# Altium schematic symbol library ME218_BaseLib.SchLib: 104 symbols
Pins are listed as number, name and electrical type; pins without a type are passive.

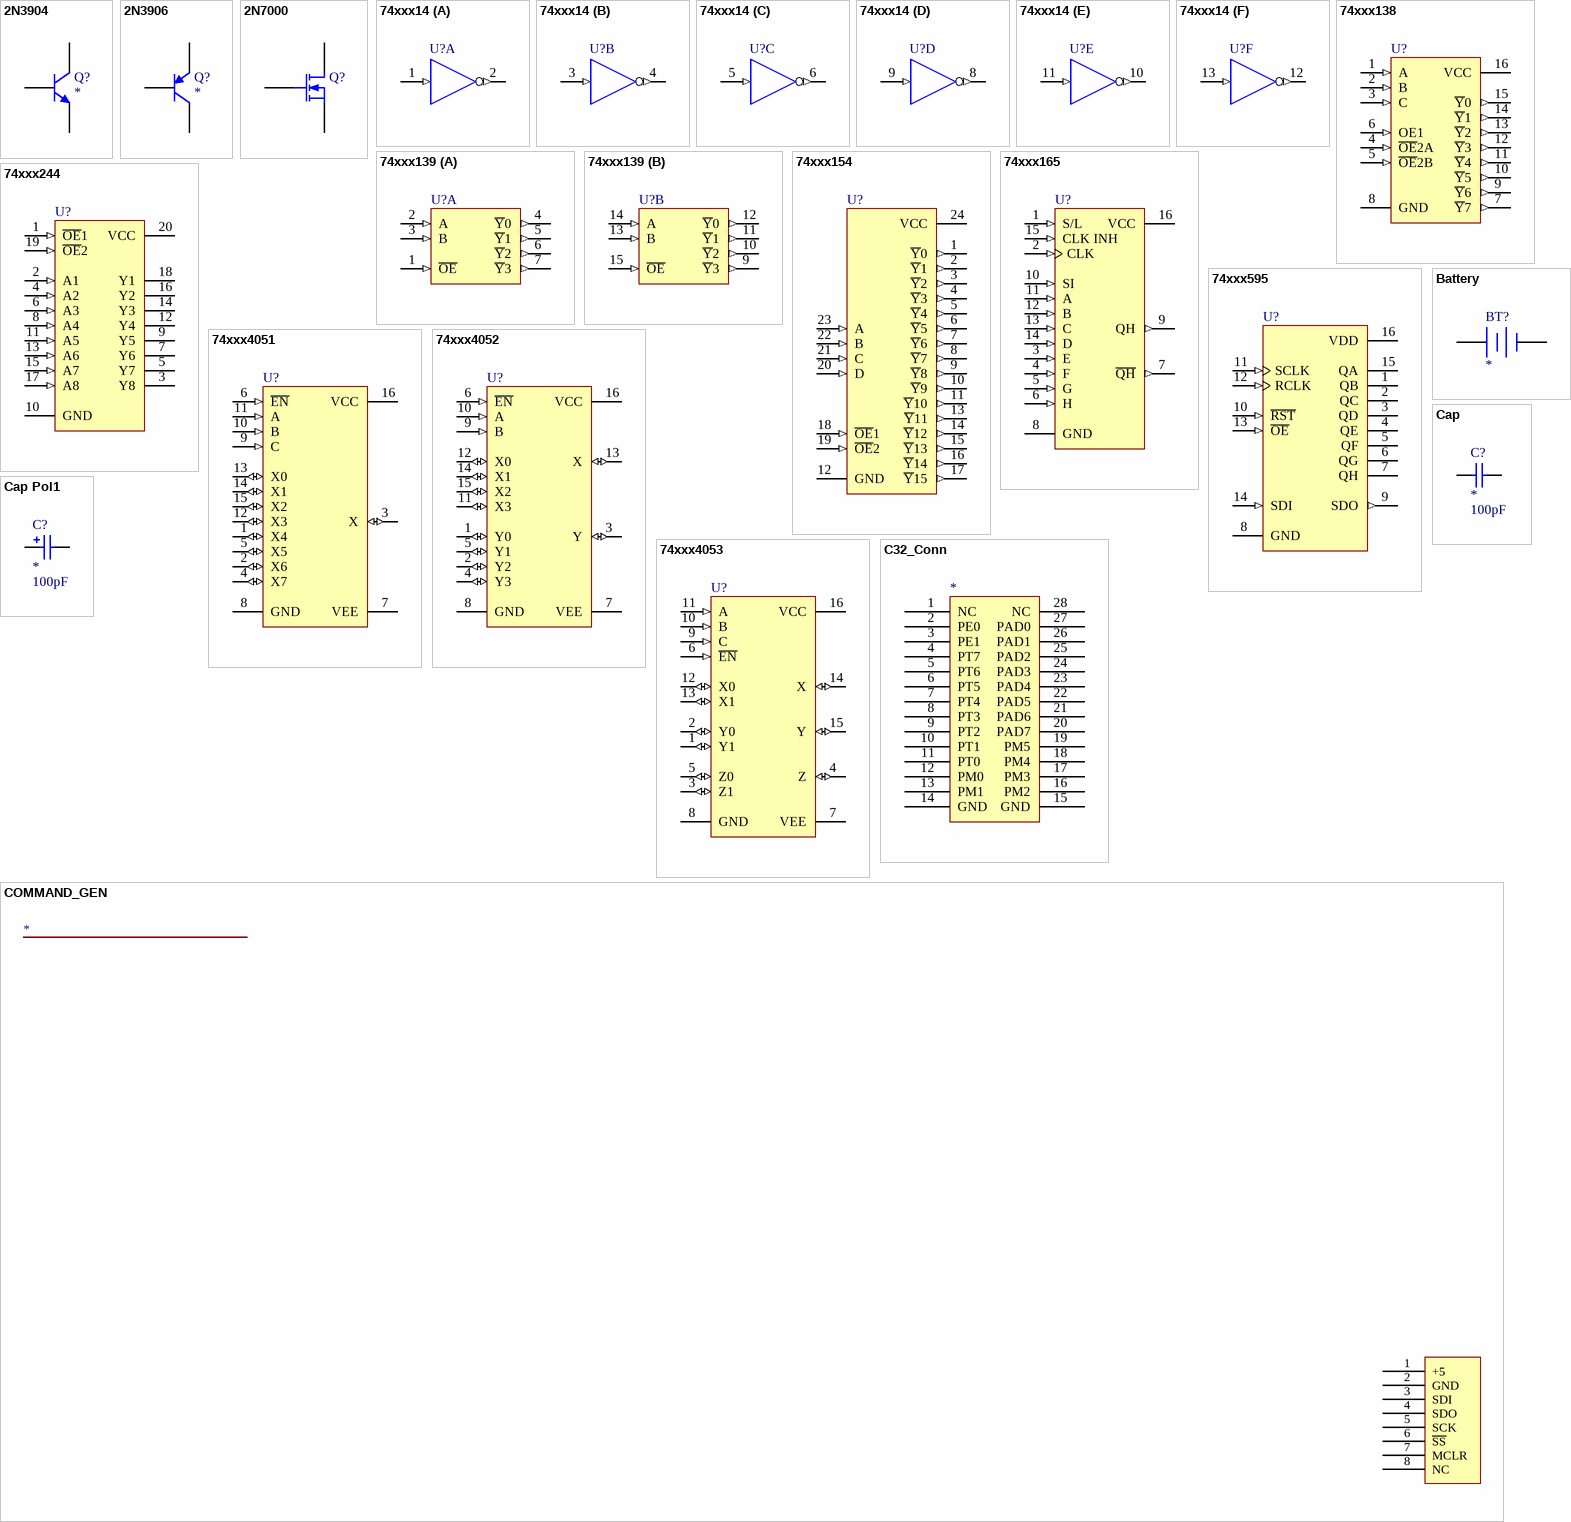
[diagram p0: symbols 2N3904 to COMMAND_GEN]

## 2N3904
designator Q?
NPN General Purpose Amplifier; Manufacturer: Generic Components; Revised: 11-July-2000: SIM Model Added.; Class: Discrete; SubClass: BJT - Low Power; Published: 08/06/2000; Publisher: Altium Hobart Technology Centre
footprint BCY-W3/D4.7
simulation model 2N3904 (NPN)
signal-integrity model 2N3904
pins: 1 E, 2 B, 3 C

## 2N3906
designator Q?
PNP General Purpose Amplifier; Manufacturer: Generic Components; Revised: 11-July-2000: SIM Model Added.; Class: Discrete; SubClass: BJT - Low Power; Published: 08/06/2000; Publisher: Altium Hobart Technology Centre
footprint BCY-W3/D4.7
simulation model 2N3906 (PNP)
signal-integrity model 2N3906
pins: 1 E, 2 B, 3 C

## 2N7000
designator Q?
N-Channel Enhancement Mode Vertical DMOS FET; Manufacturer: Zetex; Class: Discrete; SubClass: MOSFET - Low Power; Published: 8/06/2000; Publisher: Altium Hobart Technology Centre
footprint BCY-W3/D5
simulation model 2N7000 (SUBCKT)
pins: 1 S, 2 G, 3 D

## 74xxx14
designator U?
Hex Inverter with Schmitt Trigger Input; Manufacturer: Fairchild Semiconductor; Class: Logic; SubClass: Gate; Published: 15/04/2002; Publisher: Altium Hobart Technology Centre
footprint DIP-14/D19.7
simulation model FSC_74LS14 (SIMCODE)
signal-integrity model 74AC14PC
pins on every part: 7 GND (power) hidden to GND, 14 VCC (power) hidden to VCC
part A pins: 1 I (in), 2 ~{O} (out)
part B pins: 3 I (in), 4 ~{O} (out)
part C pins: 5 I (in), 6 ~{O} (out)
part D pins: 8 ~{O} (out), 9 I (in)
part E pins: 10 ~{O} (out), 11 I (in)
part F pins: 12 ~{O} (out), 13 I (in)

## 74xxx138
designator U?
3-to-8-Line Decoder; Manufacturer: National Semiconductor; Class: Logic; SubClass: Decoder/Demultiplexer; Published: 15/04/2002; Publisher: Altium Hobart Technology Centre
footprint DIP-16
simulation model 74LS138 (SIMCODE)
signal-integrity model 54LS138DMQB
pins: 1 A (in), 2 B (in), 3 C (in), 4 ~{OE}2A (in), 5 ~{OE}2B (in), 6 OE1 (in), 7 ~{Y}7 (out), 8 GND (power), 9 ~{Y}6 (out), 10 ~{Y}5 (out), 11 ~{Y}4 (out), 12 ~{Y}3 (out), 13 ~{Y}2 (out), 14 ~{Y}1 (out), 15 ~{Y}0 (out), 16 VCC (power)

## 74xxx139
designator U?
2-to-4-Line Decoder/Multiplexer; Manufacturer: National Semiconductor; Class: Logic; SubClass: Decoder/Demultiplexer; Published: 15/04/2002; Publisher: Altium Hobart Technology Centre
footprint DIP-16
simulation model 74LS139 (SIMCODE)
signal-integrity model 54LS139DMQB
pins on every part: 8 GND (power) hidden to GND, 16 VCC (power) hidden to VCC
part A pins: 1 ~{OE} (in), 2 A (in), 3 B (in), 4 ~{Y}0 (out), 5 ~{Y}1 (out), 6 ~{Y}2 (out), 7 ~{Y}3 (out)
part B pins: 9 ~{Y}3 (out), 10 ~{Y}2 (out), 11 ~{Y}1 (out), 12 ~{Y}0 (out), 13 B (in), 14 A (in), 15 ~{OE} (in)

## 74xxx154
designator U?
4-Line to 16-Line Decoder/Demultiplexer; Manufacturer: National Semiconductor; Class: Logic; Published: 15/04/2002; Publisher: Altium Hobart Technology Centre; SubClass: Decoder/Demultiplexer
footprint DIP-24/D32.3
simulation model 74LS154 (SIMCODE)
pins: 1 ~{Y}0 (out), 2 ~{Y}1 (out), 3 ~{Y}2 (out), 4 ~{Y}3 (out), 5 ~{Y}4 (out), 6 ~{Y}5 (out), 7 ~{Y}6 (out), 8 ~{Y}7 (out), 9 ~{Y}8 (out), 10 ~{Y}9 (out), 11 ~{Y}10 (out), 12 GND (power), 13 ~{Y}11 (out), 14 ~{Y}12 (out), 15 ~{Y}13 (out), 16 ~{Y}14 (out), 17 ~{Y}15 (out), 18 ~{OE}1 (in), 19 ~{OE}2 (in), 20 D (in), 21 C (in), 22 B (in), 23 A (in), 24 VCC (power)

## 74xxx165
designator U?
8-Bit Parallel In/Serial Output Shift Register; Manufacturer: Fairchild Semiconductor; Class: Logic; Note: Generic simulation model provided.; Published: 15/04/2002; Publisher: Altium Hobart Technology Centre; SubClass: Register
footprint CDFP-G16/E7
simulation model 74LS165 (SIMCODE)
signal-integrity model DM74LS165N
pins: 1 S/L (in), 2 CLK (in), 3 E (in), 4 F (in), 5 G (in), 6 H (in), 7 ~{QH} (out), 8 GND (power), 9 QH (out), 10 SI (in), 11 A (in), 12 B (in), 13 C (in), 14 D (in), 15 CLK INH (in), 16 VCC (power)

## 74xxx244
designator U?
Octal 3-State Buffer/Line Driver/Line Receiver; Manufacturer: Fairchild Semiconductor; Class: Logic; Published: 15/04/2002; Publisher: Altium Hobart Technology Centre; SubClass: Buffer/Line Driver
footprint DIP-20
simulation model 74LS244 (SIMCODE)
signal-integrity model 54LS244DMQB
pins: 1 ~{OE}1 (in), 2 A1 (in), 3 Y8 (hiz), 4 A2 (in), 5 Y7 (hiz), 6 A3 (in), 7 Y6 (hiz), 8 A4 (in), 9 Y5 (hiz), 10 GND (power), 11 A5 (in), 12 Y4 (hiz), 13 A6 (in), 14 Y3 (hiz), 15 A7 (in), 16 Y2 (hiz), 17 A8 (in), 18 Y1 (hiz), 19 ~{OE}2 (in), 20 VCC (power)

## 74xxx595
designator U?
8-Bit Serial-Input/Serial or Prallel-Output Shift Register with Latched 3-State Outputs; Manufacturer: ON Semiconductor; Class: Logic; Published: 15/04/2002; Publisher: Altium Hobart Technology Centre; SubClass: Register
footprint DIP-16/X1.5
signal-integrity model MC74HC595AN
pins: 1 QB (hiz), 2 QC (hiz), 3 QD (hiz), 4 QE (hiz), 5 QF (hiz), 6 QG (hiz), 7 QH (hiz), 8 GND (power), 9 SDO (out), 10 ~{RST} (in), 11 SCLK (in), 12 RCLK (in), 13 ~{OE} (in), 14 SDI (in), 15 QA (hiz), 16 VDD (power)

## 74xxx4051
designator U?
8-Channel Analog Multiplexer; Manufacturer: Fairchild Semiconductor; Class: Logic; SubClass: Multiplexer/Encoder/Selector; Published: 15/04/2002; Publisher: Altium Hobart Technology Centre
footprint DIP-16
pins: 1 X4 (io), 2 X6 (io), 3 X (io), 4 X7 (io), 5 X5 (io), 6 ~{EN} (in), 7 VEE (power), 8 GND (power), 9 C (in), 10 B (in), 11 A (in), 12 X3 (io), 13 X0 (io), 14 X1 (io), 15 X2 (io), 16 VCC (power)

## 74xxx4052
designator U?
Dual 4-Channel Analog Multiplexer; Manufacturer: Fairchild Semiconductor; Class: Logic; SubClass: Multiplexer/Encoder/Selector; Published: 15/04/2002; Publisher: Altium Hobart Technology Centre
footprint DIP-16
pins: 1 Y0 (io), 2 Y2 (io), 3 Y (io), 4 Y3 (io), 5 Y1 (io), 6 ~{EN} (in), 7 VEE (power), 8 GND (power), 9 B (in), 10 A (in), 11 X3 (io), 12 X0 (io), 13 X (io), 14 X1 (io), 15 X2 (io), 16 VCC (power)

## 74xxx4053
designator U?
Triple 2-Channnel Analog Multiplexer; Manufacturer: Fairchild Semiconductor; Class: Logic; SubClass: Multiplexer/Encoder/Selector; Published: 15/04/2002; Publisher: Altium Hobart Technology Centre
footprint DIP-16
pins: 1 Y1 (io), 2 Y0 (io), 3 Z1 (io), 4 Z (io), 5 Z0 (io), 6 ~{EN} (in), 7 VEE (power), 8 GND (power), 9 C (in), 10 B (in), 11 A (in), 12 X0 (io), 13 X1 (io), 14 X (io), 15 Y (io), 16 VCC (power)

## Battery
designator BT?
Multicell Battery; Manufacturer: Generic Components; Published: 1999
footprint BAT-2
pins: 1 +, 2 -

## C32_Conn
designator *
C32 Protection Bd. Connector
pins: 1 NC, 2 PE0, 3 PE1, 4 PT7, 5 PT6, 6 PT5, 7 PT4, 8 PT3, 9 PT2, 10 PT1, 11 PT0, 12 PM0, 13 PM1, 14 GND, 15 GND, 16 PM2, 17 PM3, 18 PM4, 19 PM5, 20 PAD7, 21 PAD6, 22 PAD5, 23 PAD4, 24 PAD3, 25 PAD2, 26 PAD1, 27 PAD0, 28 NC

## Cap
designator C?  value 100pF
Capacitor; Manufacturer: Generic Components; Class: Passive; Published: 08/06/2000; Publisher: Altium Hobart Technology Centre; SubClass: Capacitor
footprint RAD-0.3
simulation model CAP (Capacitor)
signal-integrity model Cap
pins: 1, 2

## Cap Pol1
designator C?  value 100pF
Polarized Capacitor (Radial); Manufacturer: Generic Components; Class: Passive; Published: 08/06/2000; Publisher: Altium Hobart Technology Centre; SubClass: Capacitor
footprint RB7.6-15
simulation model CAP (Capacitor)
signal-integrity model Cap Pol
pins: 1, 2

## COMMAND_GEN
designator *
Command Generator for lab 8
pins: 1 +5, 2 GND, 3 SDI, 4 SDO, 5 SCK, 6 ~{SS}, 7 MCLR, 8 NC

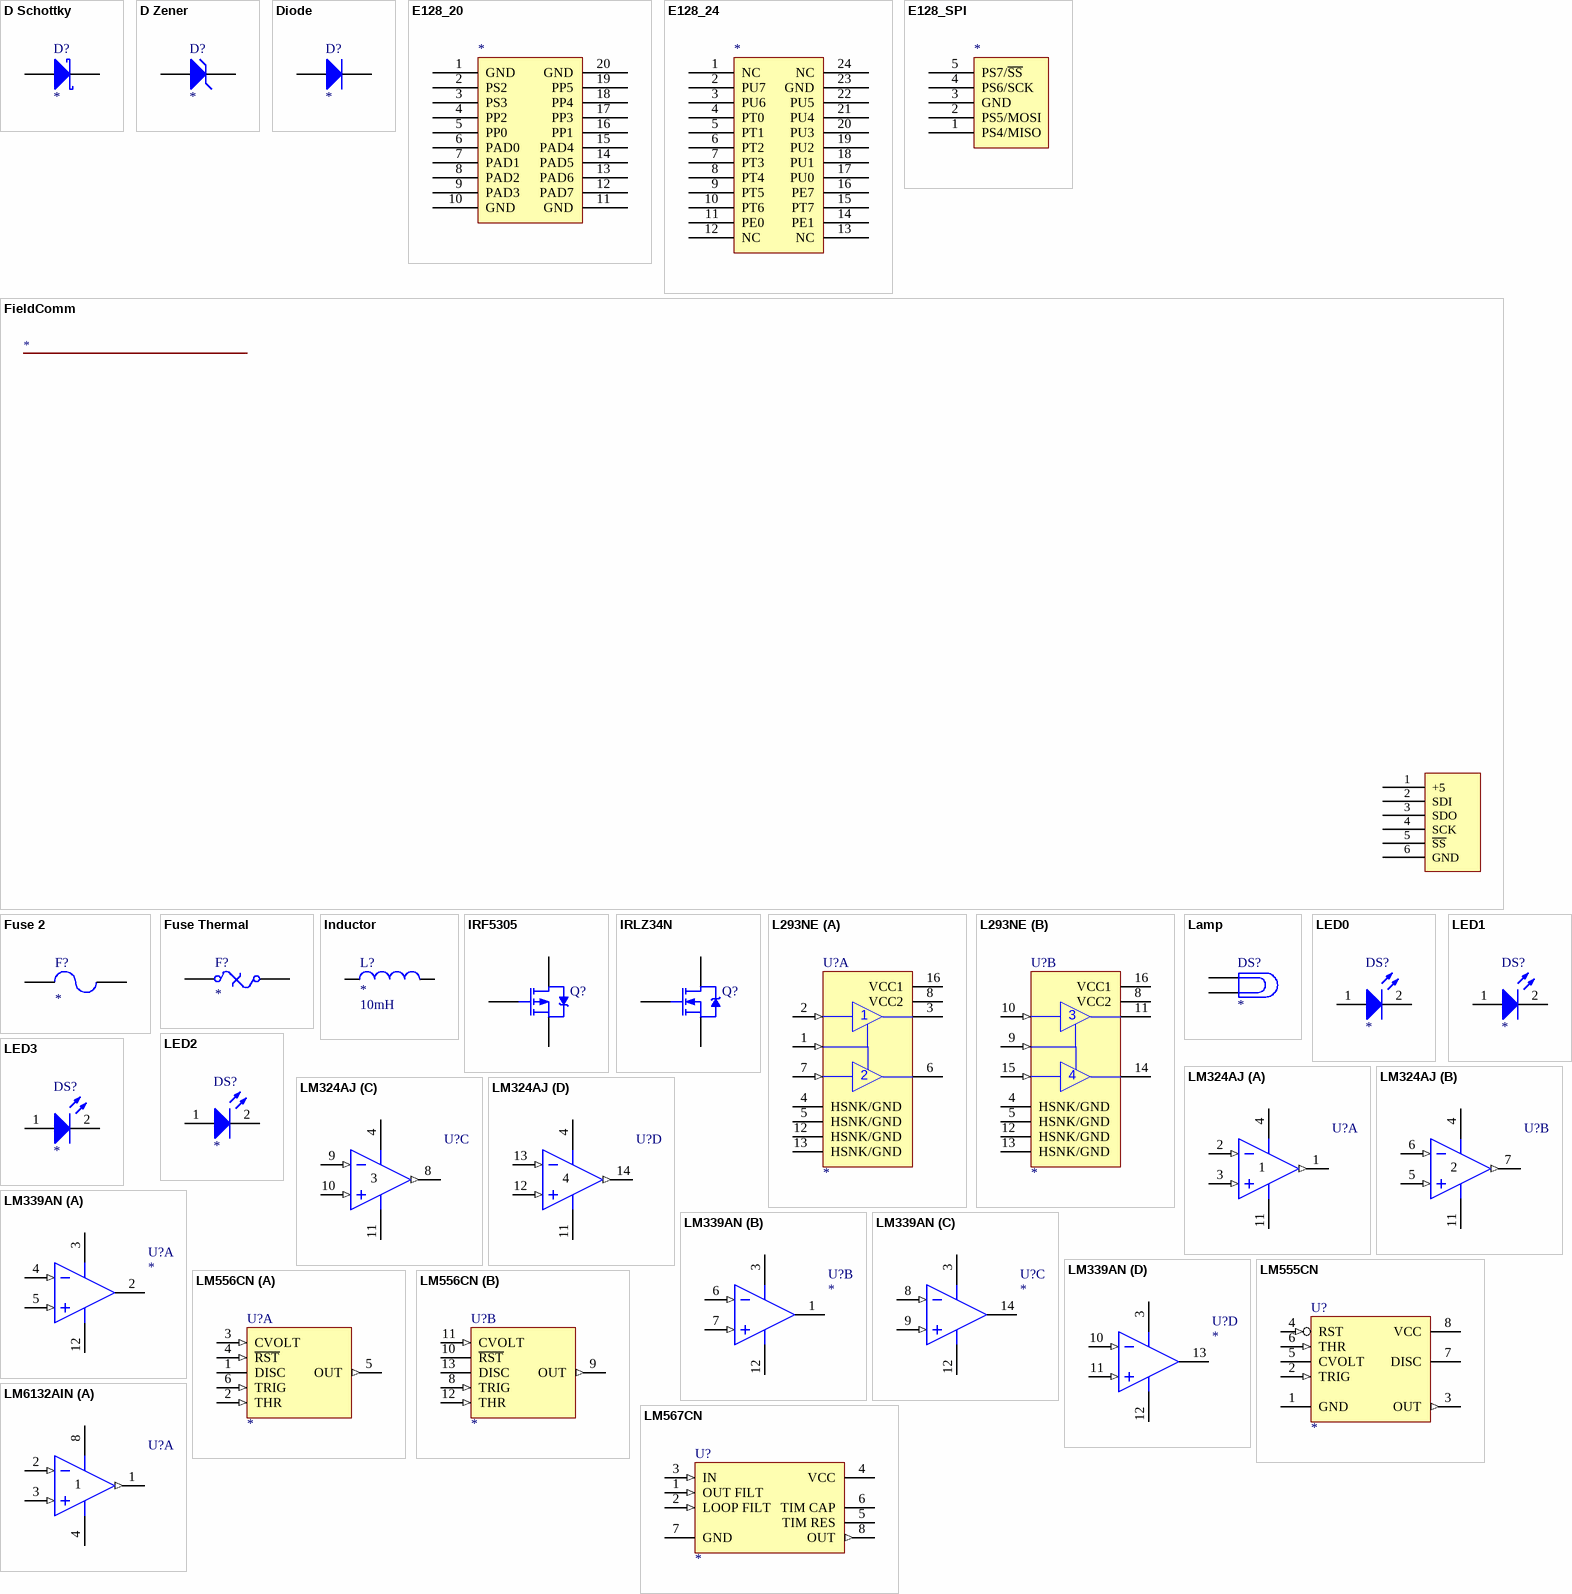
[diagram p1: symbols D Schottky to LM6132AIN]

## D Schottky
designator D?
Schottky Diode; Manufacturer: Generic Components; Class: Discrete; SubClass: Diode - Schottky; Published: 08/06/2000; Publisher: Altium Hobart Technology Centre
footprint DSO-C2/X2.3 (DO-214AA)
simulation model SKYDIODE (Diode)
signal-integrity model D Schottky
pins: 1 A, 2 K

## D Zener
designator D?
Zener Diode; Manufacturer: Generic Components; Class: Discrete; SubClass: Diode - Zener; Published: 08/06/2000; Publisher: Altium Hobart Technology Centre
footprint DIODE-0.7
simulation model ZENER (Diode)
signal-integrity model D Zener
pins: 1 A, 2 K

## Diode
designator D?
Default Diode; Manufacturer: Generic Components; Class: Discrete; SubClass: Diode - Switching; Published: 08/06/2000; Publisher: Altium Hobart Technology Centre
footprint DSO-C2/X3.3 (DO-214AB)
simulation model DIODE (Diode)
signal-integrity model Diode
pins: 1 A, 2 K

## E128_20
designator *
E128 20 Pin Connector
pins: 1 GND, 2 PS2, 3 PS3, 4 PP2, 5 PP0, 6 PAD0, 7 PAD1, 8 PAD2, 9 PAD3, 10 GND, 11 GND, 12 PAD7, 13 PAD6, 14 PAD5, 15 PAD4, 16 PP1, 17 PP3, 18 PP4, 19 PP5, 20 GND

## E128_24
designator *
E128 24 Pin Connector
pins: 1 NC, 2 PU7, 3 PU6, 4 PT0, 5 PT1, 6 PT2, 7 PT3, 8 PT4, 9 PT5, 10 PT6, 11 PE0, 12 NC, 13 NC, 14 PE1, 15 PT7, 16 PE7, 17 PU0, 18 PU1, 19 PU2, 20 PU3, 21 PU4, 22 PU5, 23 GND, 24 NC

## E128_SPI
designator *
E128 SPI Connector
pins: 1 PS4/MISO, 2 PS5/MOSI, 3 GND, 4 PS6/SCK, 5 PS7/~{SS}

## FieldComm
designator *
FieldCommunications for Project
pins: 1 +5, 2 SDI, 3 SDO, 4 SCK, 5 ~{SS}, 6 GND

## Fuse 2
designator F?
Fuse; Manufacturer: Generic Components; Class: Passive; Published: 08/06/2000; Publisher: Altium Hobart Technology Centre; SubClass: Fuse
footprint PIN-W2/E2.8
simulation model FUSE (Spice Subcircuit)
pins: 1, 2

## Fuse Thermal
designator F?
Thermal Fuse; Manufacturer: Generic Components; Class: Passive; Published: 1999; SubClass: Fuse
footprint PIN-W2/E2.8
pins: 1, 2

## Inductor
designator L?  value 10mH
Inductor; Manufacturer: Generic Components; Class: Passive; Published: 08/06/2000; Publisher: Altium Hobart Technology Centre; SubClass: Inductor
footprint C1005-0402
simulation model INDUCTOR (Inductor)
signal-integrity model Inductor
pins: 1, 2

## IRF5305
designator Q?
HEXFET Power MOSFET; Manufacturer: International Rectifier; Class: Discrete; SubClass: MOSFET - Power; Note: Pin 2 is electrically connected to pin 4.; Published: 8/06/2000; Publisher: Altium Hobart Technology Centre
footprint SFM-T3/A4.7V
pins: 1 G, 2 D, 3 S

## IRLZ34N
designator Q?
HEXFET Power MOSFET; Manufacturer: International Rectifier; Class: Discrete; SubClass: MOSFET - Power; Note: Pin 2 is electrically connected to pin 4.; Published: 8/06/2000; Publisher: Altium Hobart Technology Centre
footprint SFM-T3/A4.7V
pins: 1 G, 2 D, 3 S

## L293NE
designator U?
Quadruple Half-H Driver; Manufacturer: Texas Instruments; Class: Interface; SubClass: Peripheral Driver; Published: 15/05/2002; Publisher: Altium Hobart Technology Centre
footprint DIP-16/X1.5
pins on every part: 4 HSNK/GND (power), 5 HSNK/GND (power), 8 VCC2 (power), 12 HSNK/GND (power), 13 HSNK/GND (power), 16 VCC1 (power)
part A pins: 1 1,2EN (in), 2 1A (in), 3 1Y (hiz), 6 2Y (hiz), 7 2A (in)
part B pins: 9 3,4EN (in), 10 3A (in), 11 3Y (hiz), 14 4Y (hiz), 15 4A (in)

## Lamp
designator DS?
Incandescent Bulb; Manufacturer: Generic Components; Published: 1999
footprint PIN2
pins: 1, 2

## LED0
designator DS?
Typical INFRARED GaAs LED; Manufacturer: Generic Components; Class: Optoelectronic; Published: 08/06/2000; Publisher: Altium Hobart Technology Centre; SubClass: LED
footprint LED-0
simulation model LED0 (Diode)
pins: 1 A, 2 K

## LED1
designator DS?
Typical RED GaAs LED; Manufacturer: Generic Components; Class: Optoelectronic; Published: 08/06/2000; Publisher: Altium Hobart Technology Centre; SubClass: LED
footprint LED-1
simulation model LED1 (Diode)
pins: 1 A, 2 K

## LED2
designator DS?
Typical RED, GREEN, YELLOW, AMBER GaAs LED; Manufacturer: Generic Components; Class: Optoelectronic; Published: 08/06/2000; Publisher: Altium Hobart Technology Centre; SubClass: LED
footprint DSO-F2/D6.1
simulation model LED2 (Diode)
pins: 1 A, 2 K

## LED3
designator DS?
Typical BLUE SiC LED; Manufacturer: Generic Components; Class: Optoelectronic; Published: 08/06/2000; Publisher: Altium Hobart Technology Centre; SubClass: LED
footprint DSO-F2/D6.1
simulation model LED3 (Diode)
pins: 1 A, 2 K

## LM324AJ
designator U?
Low-Power Quad Operational Amplifier; Manufacturer: National Semiconductor; Published: 15/04/2002; Publisher: Altium Hobart Technology Centre; Class: Amplifier; SubClass: Operational Amplifier
footprint DIP-14
pins on every part: 4 V+ (power), 11 GND (power)
part A pins: 1 OUT (out), 2 IN- (in), 3 IN+ (in)
part B pins: 5 IN+ (in), 6 IN- (in), 7 OUT (out)
part C pins: 8 OUT (out), 9 IN- (in), 10 IN+ (in)
part D pins: 12 IN+ (in), 13 IN- (in), 14 OUT (out)

## LM339AN
designator U?
Quad Single-Supply Comparator; Manufacturer: Motorola; Class: Analog; Published: 15/04/2002; Publisher: Altium Hobart Technology Centre; SubClass: Comparator
footprint DIP-14/D19.7
pins on every part: 3 V+ (power), 12 GND (power)
part A pins: 2 OUT (oc), 4 IN- (in), 5 IN+ (in)
part B pins: 1 OUT (oc), 6 IN- (in), 7 IN+ (in)
part C pins: 8 IN- (in), 9 IN+ (in), 14 OUT (oc)
part D pins: 10 IN- (in), 11 IN+ (in), 13 OUT (oc)

## LM555CN
designator U?
Timer; Manufacturer: National Semiconductor; Class: Analog; SubClass: Timer Circuit; Published: 15/04/2002; Publisher: Altium Hobart Technology Centre
footprint DIP-8
pins: 1 GND (power), 2 TRIG (in), 3 OUT (out), 4 RST (in), 5 CVOLT, 6 THR (in), 7 DISC (oc), 8 VCC (power)

## LM556CN
designator U?
Dual Timer; Manufacturer: National Semiconductor; Class: Analog; SubClass: Timer Circuit; Published: 15/04/2002; Publisher: Altium Hobart Technology Centre
footprint DIP-14/D19.7
pins on every part: 7 GND (power) hidden to GND, 14 VCC (power) hidden to VCC
part A pins: 1 DISC (oc), 2 THR (in), 3 CVOLT (in), 4 ~{RST} (in), 5 OUT (out), 6 TRIG (in)
part B pins: 8 TRIG (in), 9 OUT (out), 10 ~{RST}, 11 CVOLT (in), 12 THR (in), 13 DISC (oc)

## LM567CN
designator U?
Tone Decoder; Manufacturer: National Semiconductor; Class: Logic; SubClass: Decoder/Demultiplexer; Published: 15/04/2002; Publisher: Altium Hobart Technology Centre
footprint DIP-8
pins: 1 OUT FILT (in), 2 LOOP FILT (in), 3 IN (in), 4 VCC (power), 5 TIM RES, 6 TIM CAP, 7 GND (power), 8 OUT (out)

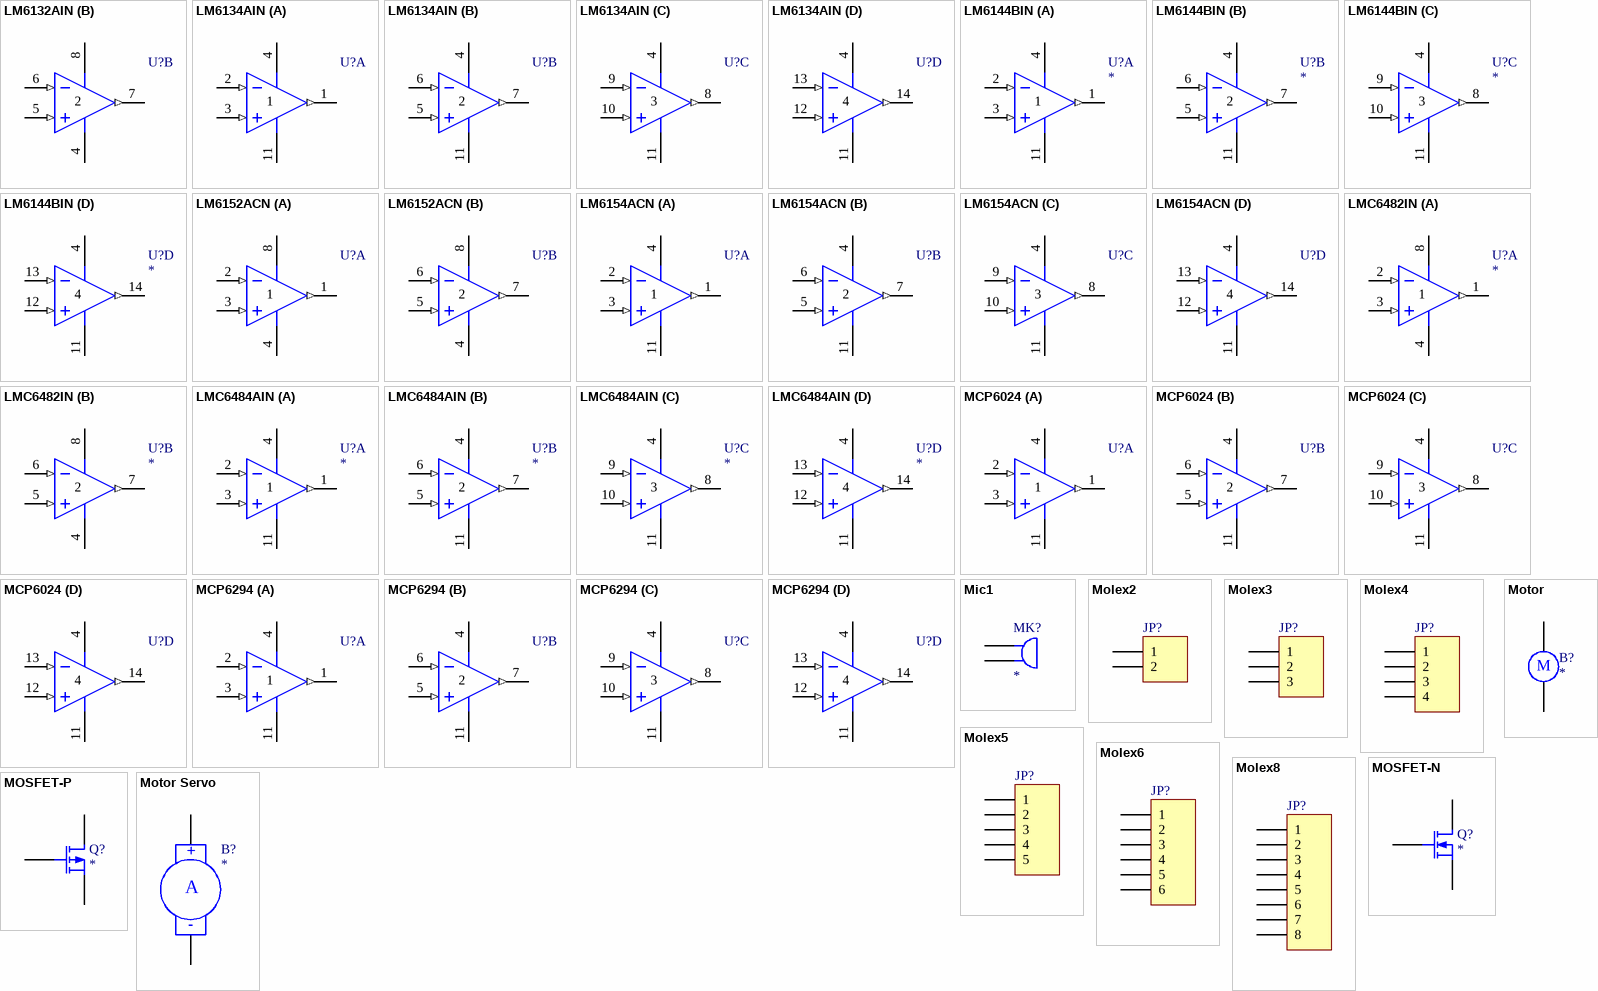
[diagram p2: symbols LM6132AIN to Motor Servo]

## LM6132AIN
designator U?
Quad Low-Power 10MHz Rail-to-Rail I/O Operational Amplifier; Manufacturer: National Semiconductor; Published: 15/04/2002; Publisher: Altium Hobart Technology Centre; Class: Amplifier; SubClass: Operational Amplifier
footprint DIP-8
simulation model LM6132A_NSC (SUBCKT)
pins on every part: 4 V- (power), 8 V+ (power)
part A pins: 1 OUT (out), 2 IN- (in), 3 IN+ (in)
part B pins: 5 IN+ (in), 6 IN- (in), 7 OUT (out)

## LM6134AIN
designator U?
Quad Low-Power 10MHz Rail-to-Rail I/O Operational Amplifier; Manufacturer: National Semiconductor; Published: 15/04/2002; Publisher: Altium Hobart Technology Centre; Class: Amplifier; SubClass: Operational Amplifier
footprint DIP-14/D19.7
pins on every part: 4 V+ (power), 11 V- (power)
part A pins: 1 OUT (out), 2 IN- (in), 3 IN+ (in)
part B pins: 5 IN+ (in), 6 IN- (in), 7 OUT (out)
part C pins: 8 OUT (out), 9 IN- (in), 10 IN+ (in)
part D pins: 12 IN+ (in), 13 IN- (in), 14 OUT (out)

## LM6144BIN
designator U?
High-Speed/Low-Power 17MHz Rail-to-Rail, Input-Output Operational Amplifier; Manufacturer: National Semiconductor; Published: 15/04/2002; Publisher: Altium Hobart Technology Centre; Class: Amplifier; SubClass: Operational Amplifier
footprint DIP-14/D19.7
pins on every part: 4 V+ (power), 11 V- (power)
part A pins: 1 OUT (out), 2 IN- (in), 3 IN+ (in)
part B pins: 5 IN+ (in), 6 IN- (in), 7 OUT (out)
part C pins: 8 OUT (out), 9 IN- (in), 10 IN+ (in)
part D pins: 12 IN+ (in), 13 IN- (in), 14 OUT (out)

## LM6152ACN
designator U?
Dual and Quad High-Speed/Low-Power 75MHz GBW Rail-to-Rail I/O Operational Amplifier; Manufacturer: National Semiconductor; Published: 15/04/2002; Publisher: Altium Hobart Technology Centre; Class: Amplifier; SubClass: Operational Amplifier
footprint DIP-8
simulation model LM6152A_NSC (SUBCKT)
pins on every part: 4 V- (power), 8 V+ (power)
part A pins: 1 OUT (out), 2 IN- (in), 3 IN+ (in)
part B pins: 5 IN+ (in), 6 IN- (in), 7 OUT (out)

## LM6154ACN
designator U?
Dual and Quad High-Speed/Low-Power 75MHz GBW Rail-to-Rail I/O Operational Amplifier; Manufacturer: National Semiconductor; Published: 15/04/2002; Publisher: Altium Hobart Technology Centre; Class: Amplifier; SubClass: Operational Amplifier
footprint DIP-14/D19.7
pins on every part: 4 V+ (power), 11 V- (power)
part A pins: 1 OUT (out), 2 IN- (in), 3 IN+ (in)
part B pins: 5 IN+ (in), 6 IN- (in), 7 OUT (out)
part C pins: 8 OUT (out), 9 IN- (in), 10 IN+ (in)
part D pins: 12 IN+ (in), 13 IN- (in), 14 OUT (out)

## LMC6482IN
designator U?
CMOS Dual Rail-to-Rail Input & Output Operational Amplifier; Manufacturer: National Semiconductor; Published: 15/04/2002; Publisher: Altium Hobart Technology Centre; Class: Amplifier; SubClass: Operational Amplifier
footprint DIP-8
pins on every part: 4 V- (power), 8 V+ (power)
part A pins: 1 OUT (out), 2 IN- (in), 3 IN+ (in)
part B pins: 5 IN+ (in), 6 IN- (in), 7 OUT (out)

## LMC6484AIN
designator U?
CMOS Quad Rail-to-Rail Input & Output Operational Amplifier; Manufacturer: National Semiconductor; Published: 15/04/2002; Publisher: Altium Hobart Technology Centre; Class: Amplifier; SubClass: Operational Amplifier
footprint DIP-14/D19.7
simulation model LMC6484A_NSC (SUBCKT)
pins on every part: 4 V+ (power), 11 V- (power)
part A pins: 1 OUT (out), 2 IN- (in), 3 IN+ (in)
part B pins: 5 IN+ (in), 6 IN- (in), 7 OUT (out)
part C pins: 8 OUT (out), 9 IN- (in), 10 IN+ (in)
part D pins: 12 IN+ (in), 13 IN- (in), 14 OUT (out)

## MCP6024
designator U?
Quad Low-Power Low Offset 10MHz Rail-to-Rail I/O Operational Amplifier; Manufacturer: National Semiconductor; Published: 15/04/2002; Publisher: Altium Hobart Technology Centre; Class: Amplifier; SubClass: Operational Amplifier
footprint DIP-14/D19.7
pins on every part: 4 V+ (power), 11 V- (power)
part A pins: 1 OUT (out), 2 IN- (in), 3 IN+ (in)
part B pins: 5 IN+ (in), 6 IN- (in), 7 OUT (out)
part C pins: 8 OUT (out), 9 IN- (in), 10 IN+ (in)
part D pins: 12 IN+ (in), 13 IN- (in), 14 OUT (out)

## MCP6294
designator U?
Quad 1Ma 10MHz Rail-to-Rail I/O Operational Amplifier; Manufacturer: National Semiconductor; Published: 15/04/2002; Publisher: Altium Hobart Technology Centre; Class: Amplifier; SubClass: Operational Amplifier
footprint DIP-14/D19.7
pins on every part: 4 V+ (power), 11 V- (power)
part A pins: 1 OUT (out), 2 IN- (in), 3 IN+ (in)
part B pins: 5 IN+ (in), 6 IN- (in), 7 OUT (out)
part C pins: 8 OUT (out), 9 IN- (in), 10 IN+ (in)
part D pins: 12 IN+ (in), 13 IN- (in), 14 OUT (out)

## Mic1
designator MK?
Microphone; Manufacturer: Generic Components; Published: 1999
footprint PIN2
pins: 1, 2

## Molex2
designator JP?
Header, 2-Pin; Manufacturer: Generic Components; Class: Connector
footprint HDR1X2
signal-integrity model Connector
pins: 1, 2

## Molex3
designator JP?
Header, 3-Pin; Manufacturer: Generic Components; Class: Connector
footprint HDR1X3
signal-integrity model Connector
pins: 1, 2, 3

## Molex4
designator JP?
Header, 4-Pin; Manufacturer: Generic Components; Class: Connector
footprint HDR1X4
signal-integrity model Connector
pins: 1, 2, 3, 4

## Molex5
designator JP?
Header, 5-Pin; Manufacturer: Generic Components; Class: Connector
footprint HDR1X5
signal-integrity model Connector
pins: 1, 2, 3, 4, 5

## Molex6
designator JP?
Header, 6-Pin; Manufacturer: Generic Components; Class: Connector
footprint HDR1X6
signal-integrity model Connector
pins: 1, 2, 3, 4, 5, 6

## Molex8
designator JP?
Header, 8-Pin; Manufacturer: Generic Components; Class: Connector
footprint HDR1X8
signal-integrity model Connector
pins: 1, 2, 3, 4, 5, 6, 7, 8

## MOSFET-N
designator Q?
N-Channel MOSFET; Manufacturer: Generic Components; Class: Discrete; SubClass: MOSFET - Low Power; Published: 08/06/2000; Publisher: Altium Hobart Technology Centre
footprint BCY-W3/H.8
simulation model NMOS (MOSFET-N)
pins: 1 D, 2 G, 3 S

## MOSFET-P
designator Q?
P-Channel MOSFET; Manufacturer: Generic Components; Class: Discrete; SubClass: MOSFET - Low Power; Published: 08/06/2000; Publisher: Altium Hobart Technology Centre
footprint BCY-W3/H.8
simulation model PMOS (MOSFET-P)
pins: 1 D, 2 G, 3 S

## Motor
designator B?
Motor, General Kind; Manufacturer: Generic Components; Published: 1999
footprint RB5-10.5
pins: 1, 2
text: M

## Motor Servo
designator B?
Servo Motor; Manufacturer: Generic Components; Published: 1999
footprint RAD-0.4
pins: 1 +, 2 -
text: A

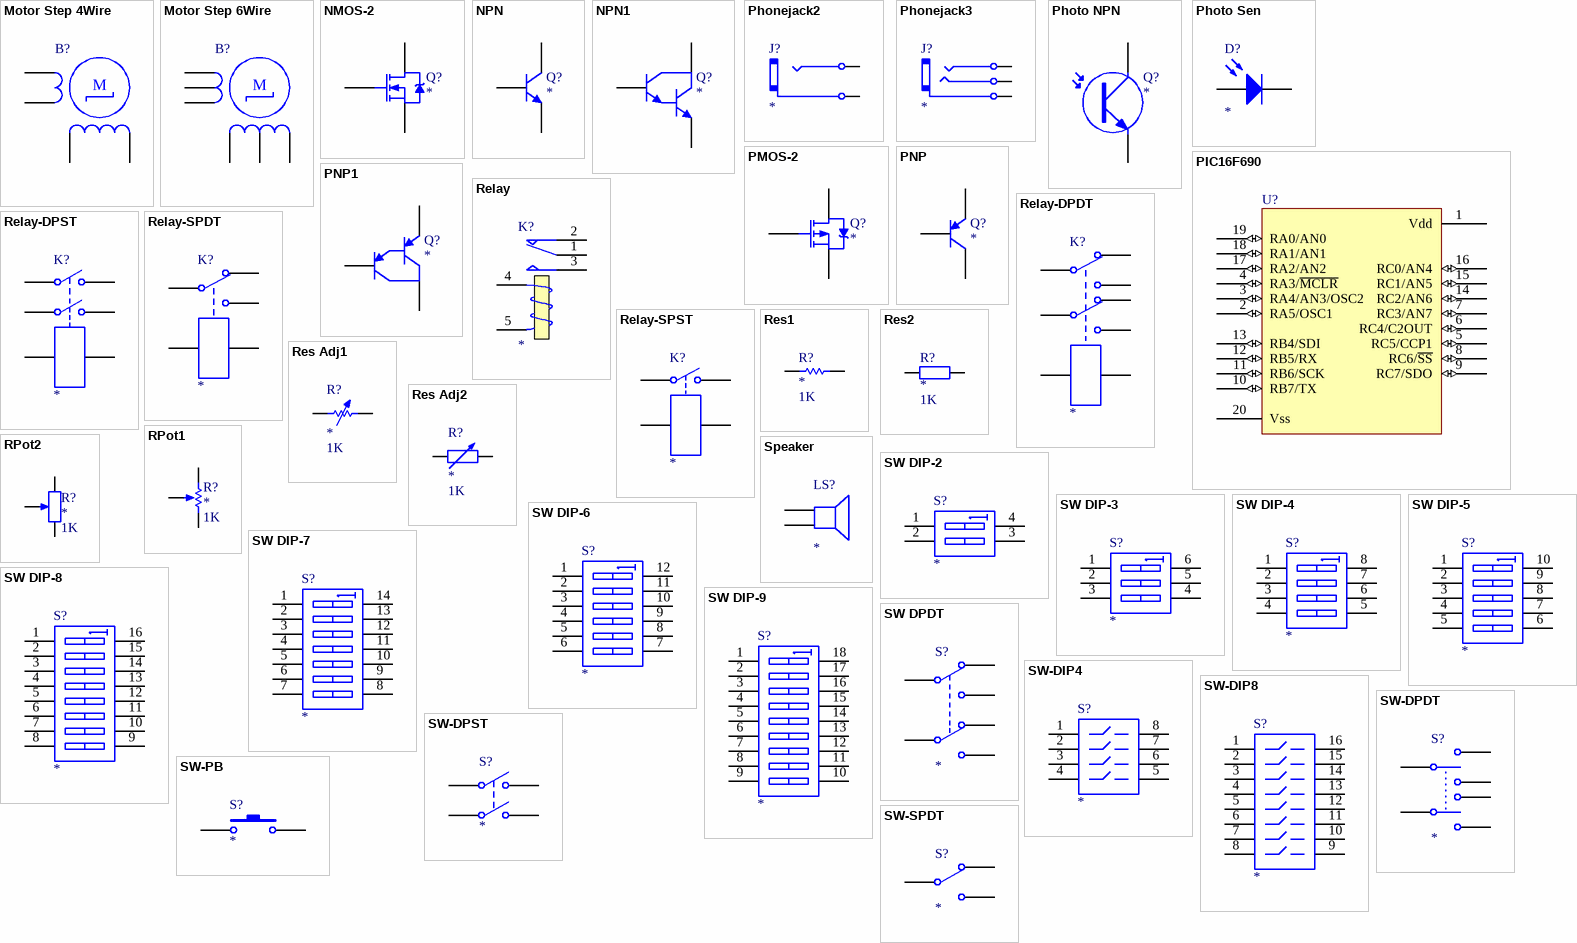
[diagram p3: symbols Motor Step 4Wire to SW-SPDT]

## Motor Step 4Wire
designator B?
Motor Stepper; Manufacturer: Generic Components; Published: 1999
footprint DIP-6 (MO-001-AM)
pins: 1, 3, 4, 6
text: M

## Motor Step 6Wire
designator B?
Motor Stepper; Manufacturer: Generic Components; Published: 1999
footprint DIP-6 (MO-001-AM)
pins: 1, 2, 3, 4, 5, 6
text: M

## NMOS-2
designator Q?
N-Channel Power MOSFET; Manufacturer: Generic Components; Class: Discrete; SubClass: MOSFET - Power; Note: Pin 2 is electrically connected to pin 4.; Published: 08/06/2000
footprint SFM-T3/A4.7V (TO-220AB)
simulation model IRF1010 (Spice Subcircuit)
pins: 1 G, 2 D, 3 S

## NPN
designator Q?
NPN Bipolar Transistor; Manufacturer: Generic Components; Class: Discrete; SubClass: BJT - Low Power; Published: 08/06/2000; Publisher: Altium Hobart Technology Centre
footprint BCY-W3 (TO-226-AA)
simulation model NPN
signal-integrity model NPN
pins: 1 C, 2 B, 3 E

## NPN1
designator Q?
NPN Darlington Bipolar Transistor; Manufacturer: Generic Components; Class: Discrete; SubClass: BJT - Darlington; Published: 08/06/2000
footprint BCY-W3/H.7 (TO-92)
simulation model NPN1 (Spice Subcircuit)
signal-integrity model NPN
pins: 1 C, 2 B, 3 E

## Phonejack2
designator J?
2-Conductor Jack; Manufacturer: Generic Components; Class: Connector
footprint PIN2
signal-integrity model Connector
pins: 1 A, 2 B

## Phonejack3
designator J?
3-Conductor Jack; Manufacturer: Generic Components; Class: Connector
footprint PIN3
signal-integrity model Connector
pins: 1 A, 2 B, 3 C

## Photo NPN
designator Q?
NPN Phototransistor; Manufacturer: Generic Components; Class: Optoelectronic; Published: 1999
footprint SFM-T2(3)/X1.6V (TO-220-AC)
pins: 1 C, 3 E

## Photo Sen
designator D?
Photosensitive Diode; Manufacturer: Generic Components; Class: Optoelectronic; Published: 1999
footprint PIN2
pins: 1 A, 2 K

## PIC16F690
designator U?
PIC16F690 Processor
footprint DIP-20
pins: 1 Vdd (power), 2 RA5/OSC1 (io), 3 RA4/AN3/OSC2 (io), 4 RA3/~{MCLR} (io), 5 RC5/CCP1 (io), 6 RC4/C2OUT (io), 7 RC3/AN7 (io), 8 RC6/~{SS} (io), 9 RC7/SDO (io), 10 RB7/TX (io), 11 RB6/SCK (io), 12 RB5/RX (io), 13 RB4/SDI (io), 14 RC2/AN6 (io), 15 RC1/AN5 (io), 16 RC0/AN4 (io), 17 RA2/AN2 (io), 18 RA1/AN1 (io), 19 RA0/AN0 (io), 20 Vss (power)

## PMOS-2
designator Q?
P-Channel Power MOSFET; Manufacturer: Generic Components; Class: Discrete; SubClass: MOSFET - Power; Note: Pin 4 not drawn and electrically connected to Pin 2.; Published: 08/06/2000
footprint SFM-T3/A4.7V (TO-220AB)
simulation model IRF9510 (Spice Subcircuit)
pins: 1 G, 2 D, 3 S

## PNP
designator Q?
PNP Bipolar Transistor; Manufacturer: Generic Components; Class: Discrete; SubClass: BJT - Low Power; Published: 08/06/2000; Publisher: Altium Hobart Technology Centre
footprint SO-G3/C2.5 (SOT-23)
simulation model PNP
signal-integrity model PNP
pins: 1 C, 2 B, 3 E

## PNP1
designator Q?
PNP Darlington Bipolar Transistor; Manufacturer: Generic Components; Class: Discrete; SubClass: BJT - Darlington; Published: 08/06/2000
footprint BCY-W3/H.8
simulation model PNP1 (Spice Subcircuit)
signal-integrity model PNP
pins: 1 E, 2 B, 3 C

## Relay
designator K?
SPDT Relay; Manufacturer: Generic Components; Class: Electro-mechanical; Published: 08/06/2000; Publisher: Altium Hobart Technology Centre; SubClass: Relay
footprint DIP-P5/X1.65
simulation model SPDTRELAY (Spice Subcircuit)
pins: 1 COM, 2 NC, 3 NO, 4 T1, 5 T2

## Relay-DPDT
designator K?
Dual-Pole Dual-Throw Relay; Manufacturer: Generic Components; Class: Electro-mechanical; Published: 1999; SubClass: Relay
footprint DIP-P8/E10
simulation model DPDTRELAY (Spice Subcircuit)
pins: 1, 2, 3, 4, 5, 6, 7, 8

## Relay-DPST
designator K?
Dual-Pole Single-Throw Relay; Manufacturer: Generic Components; Class: Electro-mechanical; Published: 1999; SubClass: Relay
footprint DIP-P6/D33
simulation model DPSTRELAY (Spice Subcircuit)
pins: 1, 2, 3, 4, 5, 6

## Relay-SPDT
designator K?
Single-Pole Dual-Throw Relay; Manufacturer: Generic Components; Class: Electro-mechanical; Published: 1999; SubClass: Relay
footprint DIP-P5/X1.65
simulation model SPDTRELAY (Spice Subcircuit)
pins: 1, 2, 3, 4, 5

## Relay-SPST
designator K?
Single-Pole Single-Throw Relay; Manufacturer: Generic Components; Class: Electro-mechanical; Published: 1999; SubClass: Relay
footprint DIP-P4
simulation model SPSTRELAY (Spice Subcircuit)
pins: 1, 2, 3, 4

## Res1
designator R?  value 1K
Resistor; Manufacturer: Generic Components; Class: Passive; Published: 08/06/2000; Publisher: Altium Hobart Technology Centre; SubClass: Resistor
footprint Vertical Resistor
simulation model RESISTOR (Resistor)
signal-integrity model Res1
pins: 1, 2

## Res2
designator R?  value 1K
Resistor; Manufacturer: Generic Components; Class: Passive; Published: 08/06/2000; Publisher: Altium Hobart Technology Centre; SubClass: Resistor
footprint AXIAL-0.4
simulation model RESISTOR (Resistor)
signal-integrity model Res2
pins: 1, 2

## Res Adj1
designator R?  value 1K
Variable Resistor; Manufacturer: Generic Components; Class: Passive; Set Position: 0.5; Published: 08/06/2000; Publisher: Altium Hobart Technology Centre; SubClass: Resistor
footprint AXIAL-0.7
simulation model VRES (Variable Resistor)
signal-integrity model Res Adj
pins: 1, 2

## Res Adj2
designator R?  value 1K
Variable Resistor; Manufacturer: Generic Components; Class: Passive; Set Position: 0.5; Published: 08/06/2000; Publisher: Altium Hobart Technology Centre; SubClass: Resistor
footprint AXIAL-0.6
simulation model VRES (Variable Resistor)
signal-integrity model Res Adj
pins: 1, 2

## RPot1
designator R?  value 1K
Potentiometer; Manufacturer: Generic Components; Class: Passive; Set Position: 0.5; Published: 08/06/2000; Publisher: Altium Hobart Technology Centre; SubClass: Potentiometer
footprint VR5
simulation model POT (Potentiometer)
pins: 1 TOP, 2 BOT, 3 TAP

## RPot2
designator R?  value 1K
Potentiometer; Manufacturer: Generic Components; Class: Passive; Set Position: 0.5; Published: 08/06/2000; Publisher: Altium Hobart Technology Centre; SubClass: Potentiometer
footprint VR2
simulation model POT (Potentiometer)
pins: 1 TOP, 2 BOT, 3 TAP

## Speaker
designator LS?
Loudspeaker; Manufacturer: Generic Components; Published: 1999
footprint PIN2
pins: 1, 2

## SW DIP-2
designator S?
DIP Switch; Manufacturer: Generic Components; Published: 1999
footprint DIP-4
simulation model dpsw2 (Spice Subcircuit)
pins: 1 A1, 2 A2, 3 B2, 4 B1

## SW DIP-3
designator S?
DIP Switch; Manufacturer: Generic Components; Published: 1999
footprint DIP-6 (MO-001-AM)
simulation model dpsw3 (Spice Subcircuit)
pins: 1 A1, 2 A2, 3 A3, 4 B3, 5 B2, 6 B1

## SW DIP-4
designator S?
DIP Switch; Manufacturer: Generic Components; Published: 1999
footprint SO-G8 (MS-012-AA)
simulation model dpsw4 (Spice Subcircuit)
pins: 1 A1, 2 A2, 3 A3, 4 A4, 5 B4, 6 B3, 7 B2, 8 B1

## SW DIP-5
designator S?
DIP Switch; Manufacturer: Generic Components; Published: 1999
footprint DIP-10/D14.5
simulation model dpsw5 (Spice Subcircuit)
pins: 1 A1, 2 A2, 3 A3, 4 A4, 5 A5, 6 B5, 7 B4, 8 B3, 9 B2, 10 B1

## SW DIP-6
designator S?
DIP Switch; Manufacturer: Generic Components; Published: 1999
footprint DIP-12/SW
simulation model dpsw6 (Spice Subcircuit)
pins: 1 A1, 2 A2, 3 A3, 4 A4, 5 A5, 6 A6, 7 B6, 8 B5, 9 B4, 10 B3, 11 B2, 12 B1

## SW DIP-7
designator S?
DIP Switch; Manufacturer: Generic Components; Published: 1999
footprint DIP-14 (MO-001-AF)
simulation model dpsw7 (Spice Subcircuit)
pins: 1 A1, 2 A2, 3 A3, 4 A4, 5 A5, 6 A6, 7 A7, 8 B7, 9 B6, 10 B5, 11 B4, 12 B3, 13 B2, 14 B1

## SW DIP-8
designator S?
DIP Switch; Manufacturer: Generic Components; Published: 1999
footprint DIP_SW_8WAY_SMD
simulation model dpsw8 (Spice Subcircuit)
pins: 1 A1, 2 A2, 3 A3, 4 A4, 5 A5, 6 A6, 7 A7, 8 A8, 9 B8, 10 B7, 11 B6, 12 B5, 13 B4, 14 B3, 15 B2, 16 B1

## SW DIP-9
designator S?
DIP Switch; Manufacturer: Generic Components; Published: 1999
footprint DIP-18 (MO-036-AE)
simulation model dpsw9 (Spice Subcircuit)
pins: 1 A1, 2 A2, 3 A3, 4 A4, 5 A5, 6 A6, 7 A7, 8 A8, 9 A9, 10 B9, 11 B8, 12 B7, 13 B6, 14 B5, 15 B4, 16 B3, 17 B2, 18 B1

## SW DPDT
designator S?
Switch; Manufacturer: Generic Components; Published: 1999
footprint SO-G6/P.95 (SOT23-6)
pins: 1 COMMON1, 2 NC1, 3 NO1, 4 NC2, 5 COMMON2, 6 NO2

## SW-DIP4
designator S?
DIP Switch; Manufacturer: Generic Components; Published: 1999
footprint DIP-8
simulation model dpsw4 (Spice Subcircuit)
pins: 1, 2, 3, 4, 5, 6, 7, 8

## SW-DIP8
designator S?
DIP Switch; Manufacturer: Generic Components; Published: 1999
footprint DIP-16 (MO-001-AC)
simulation model dpsw8 (Spice Subcircuit)
pins: 1, 2, 3, 4, 5, 6, 7, 8, 9, 10, 11, 12, 13, 14, 15, 16

## SW-DPDT
designator S?
Double-Pole, Double-Throw Switch; Manufacturer: Generic Components; Published: 1999
footprint DPDT-6
pins: 1, 2, 3, 4, 5, 6

## SW-DPST
designator S?
Double-Pole, Single-Throw Switch; Manufacturer: Generic Components; Published: 1999
footprint DPST-4
pins: 1 COMMON1, 2 NO1, 3 COMMON2, 4 NO2

## SW-PB
designator S?
Switch; Manufacturer: Generic Components; Published: 1999
footprint SPST-2
pins: 1, 2

## SW-SPDT
designator S?
Single-Pole, Double-Throw Switch; Manufacturer: Generic Components; Published: 1999
footprint SPDT-3 (TO-262-AA)
pins: 1 COMMON, 2 NC, 3 NO

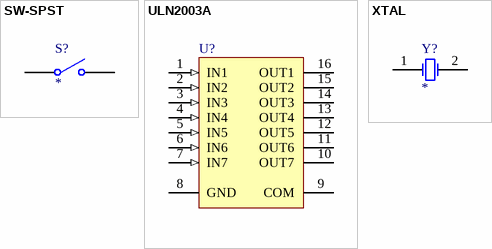
[diagram p4: symbols SW-SPST to XTAL]

## SW-SPST
designator S?
Single-Pole, Single-Throw Switch; Manufacturer: Generic Components; Published: 1999
footprint SPST-2
pins: 1 COMMON, 2 NO

## ULN2003A
designator U?
High-Voltage, High-Current Darlington Array; Manufacturer: Allegro; Class: Interface; SubClass: Darlington Driver; Published: 13/10/2000; Publisher: Altium Hobart Technology Centre
footprint DIP-16/X1.5
pins: 1 IN1 (in), 2 IN2 (in), 3 IN3 (in), 4 IN4 (in), 5 IN5 (in), 6 IN6 (in), 7 IN7 (in), 8 GND (power), 9 COM, 10 OUT7 (oc), 11 OUT6 (oc), 12 OUT5 (oc), 13 OUT4 (oc), 14 OUT3 (oc), 15 OUT2 (oc), 16 OUT1 (oc)

## XTAL
designator Y?
Crystal Oscillator; Manufacturer: Generic Components; Published: 08/06/2000; Publisher: Altium Hobart Technology Centre; Class: Oscillator; SubClass: Crystal Oscillator
footprint BCY-W2/D3.1
simulation model XTAL (Spice Subcircuit)
pins: 1 OSC1, 2 OSC2